# Altium footprint library S 三极管.PcbLib: 6 footprints
Each footprint in its own frame and in the unit in brackets; x right, y up, seen from the top. Pads: shape width x height; smd on the part's side, far side on the other; paste and mask are expansions set on the pad; w line width, h text height; cw(c..) or ccw(c..) is an arc to the next point about the centre after c.
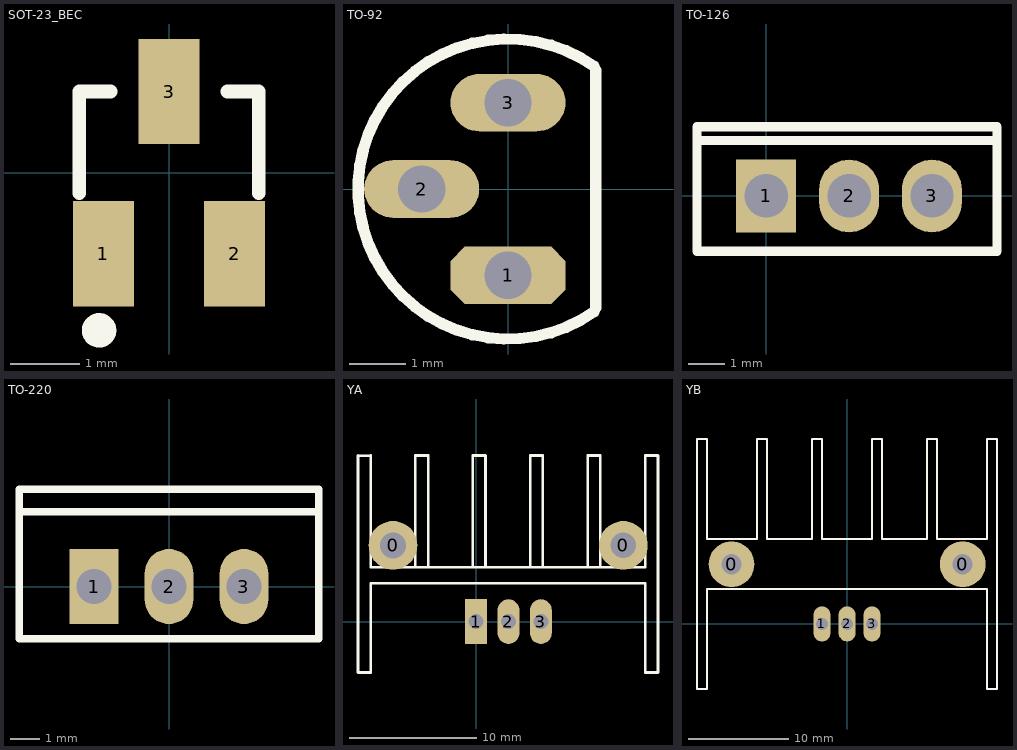
[diagram p0: the footprints below, top view; thin cyan lines are the x and y axes]

## SOT-23_BEC [mil] "SOT-23; 3 Leads; Body 3.1 x 2.5 mm, inc. leads (LxW max), Alternate Lead Configuration"
height 43.31
pads (3):
  rect 35x60 smd: 1(-37.4,-46.26) 2(37.4,-46.26) 3(0,46.26)
Top Overlay:
  circle w9.84: c-39.92,-90 r4.92
  lines w7.87: -51.18,-11.81 -51.18,46.26 -33.46,46.26 ; 33.46,46.26 51.18,46.26 51.18,-11.81

## TO-92 [mil]
height 209.84
pads (3):
  oct 80x40 hole 33: 1(0,-60)
  oval 80x40 hole 33: 2(-60,0) 3(0,60)
Top Overlay:
  lines w7.87: 59.84,-85.46 cw(c0,0) 59.84,85.46 ; 61.02,-82.68 61.02,82.68

## TO-126 [mil] "TO"
pads (3):
  rect 65x78.74 hole 47: 1(0,0)
  oval 65x78.74 hole 47: 2(89.76,0) 3(179.53,0)
Top Overlay:
  lines w10: -75,60 250,60 ; -75,-60 -75,75 250,75 250,-60 -75,-60

## TO-220 [mil] "TO"
pads (3):
  rect 65x100 hole 47: 1(-100,0)
  oval 65x100 hole 47: 2(0,0) 3(100,0)
Top Overlay:
  lines w10: -200,100 200,100 ; -200,-70 -200,130 200,130 200,-70 -200,-70

## YA [mil] "中散热器"
pads (5):
  round 150 hole 80: 0(-256,235)
  round 150 hole 79: 0(454,235)
  rect 67x138 hole 47: 1(0,0)
  oval 67x138 hole 47: 2(100,0) 3(200,0)
Top Overlay:
  lines w8: -364,511 -325,511 ; -364,512 -364,-157 -325,-157 -325,118 522,118 522,-157 561,-157 561,512 522,512 522,167 -325,167 -325,512 ; -187,167 -187,512 -148,512 -148,167 ; -10,167 -10,512 29,512 29,167 ; 167,167 167,512 206,512 206,167 ; 344,167 344,512 383,512 383,167

## YB [mil] "大散热器"
pads (5):
  round 180 hole 79: 0(-455,235) 0(455,235)
  oval 67x138 hole 47: 1(-99,0) 2(0,0) 3(98,0)
Top Overlay:
  lines w8: -591,-256 -551,-256 -551,138 551,138 551,-256 590,-256 590,728 551,728 551,335 354,335 354,728 315,728 315,335 138,335 138,728 98,728 98,335 -99,335 -99,728 -139,728 -139,335 -316,335 -316,728 -355,728 -355,335 -551,335 -551,728 -591,728 -591,-256